# Altium schematic symbol library RF_Bluetooth.SchLib: 13 symbols
Pins are listed as number, name and electrical type; pins without a type are passive.

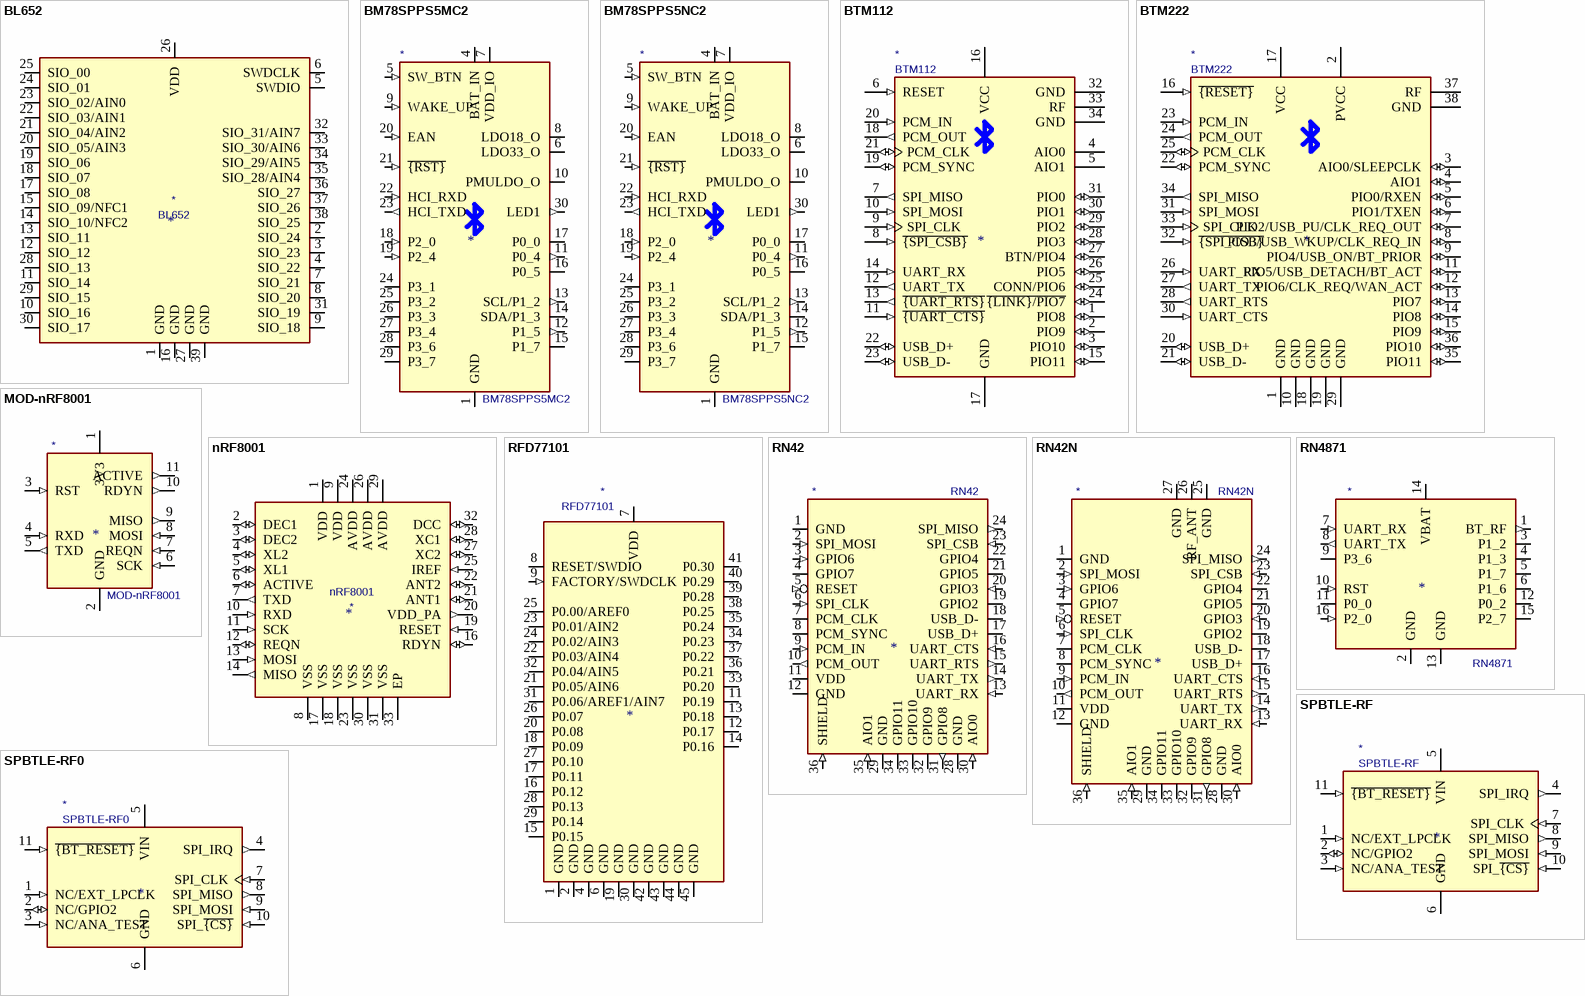
[diagram p0: symbols BL652 to SPBTLE-RF0]

## BL652
designator *  value BL652
ki_keywords: Bluetooth Nordic nRF52; ki_description: Bluetooth module; ki_fp_filters: Laird*BL652*; Footprint: RF_Module:Laird_BL652; Supplier: http://cdn.lairdtech.com/home/brandworld/files/Datasheet%20-%20BL652.pdf
footprint Laird_BL652
pins: 1 GND (power), 2 SIO_24 (io), 3 SIO_23 (io), 4 SIO_22 (io), 5 SWDIO (io), 6 SWDCLK (io), 7 SIO_21 (io), 8 SIO_20 (io), 9 SIO_18 (io), 10 SIO_16 (io), 11 SIO_14 (io), 12 SIO_12 (io), 13 SIO_11 (io), 14 SIO_10/NFC2 (io), 15 SIO_09/NFC1 (io), 16 GND (power), 17 SIO_08 (io), 18 SIO_07 (io), 19 SIO_06 (io), 20 SIO_05/AIN3 (io), 21 SIO_04/AIN2 (io), 22 SIO_03/AIN1 (io), 23 SIO_02/AIN0 (io), 24 SIO_01 (io), 25 SIO_00 (io), 26 VDD (power), 27 GND (power), 28 SIO_13 (io), 29 SIO_15 (io), 30 SIO_17 (io), 31 SIO_19 (io), 32 SIO_31/AIN7 (io), 33 SIO_30/AIN6 (io), 34 SIO_29/AIN5 (io), 35 SIO_28/AIN4 (io), 36 SIO_27 (io), 37 SIO_26 (io), 38 SIO_25 (io), 39 GND (power)

## BM78SPPS5MC2
designator *  value BM78SPPS5MC2
ki_keywords: Bluetooth BLE BT GAP SPP SDP RFCOMM L2CAP GATT ATT SMP L2CAP; ki_description: Bluetooth Dual-Mode, UART, Class 2; ki_fp_filters: BM78SPPS5XC2*; Footprint: RF_Module:BM78SPPS5XC2; Supplier: http://ww1.microchip.com/downloads/en/DeviceDoc/60001380C.pdf
footprint BM78SPPS5XC2
pins: 1 GND (power), 2 GND hidden, 3 GND hidden, 4 BAT_IN (power), 5 SW_BTN (in), 6 LDO33_O (power), 7 VDD_IO (power), 8 LDO18_O (power), 9 WAKE_UP (in), 10 PMULDO_O, 11 P0_4 (out), 12 P1_5 (out), 13 SCL/P1_2 (out), 14 SDA/P1_3 (io), 15 P1_7 (io), 16 P0_5 (io), 17 P0_0 (io), 18 P2_0 (in), 19 P2_4 (in), 20 EAN (in), 21 ~{{RST}} (in), 22 HCI_RXD (in), 23 HCI_TXD (out), 24 P3_1 (io), 25 P3_2 (io), 26 P3_3 (io), 27 P3_4 (io), 28 P3_6 (io), 29 P3_7 (io), 30 LED1 (out), 31 GND hidden, 32 GND hidden, 33 GND hidden

## BM78SPPS5NC2
designator *  value BM78SPPS5NC2
ki_keywords: Bluetooth BLE BT GAP SPP SDP RFCOMM L2CAP GATT ATT SMP L2CAP; ki_description: Bluetooth Dual-Mode, UART, Class 2; ki_fp_filters: BM78SPPS5XC2*; Footprint: RF_Module:BM78SPPS5XC2; Supplier: http://ww1.microchip.com/downloads/en/DeviceDoc/60001380C.pdf
footprint BM78SPPS5XC2
pins: 1 GND (power), 2 GND hidden, 3 GND hidden, 4 BAT_IN (power), 5 SW_BTN (in), 6 LDO33_O (power), 7 VDD_IO (power), 8 LDO18_O (power), 9 WAKE_UP (in), 10 PMULDO_O, 11 P0_4 (out), 12 P1_5 (out), 13 SCL/P1_2 (out), 14 SDA/P1_3 (io), 15 P1_7 (io), 16 P0_5 (io), 17 P0_0 (io), 18 P2_0 (in), 19 P2_4 (in), 20 EAN (in), 21 ~{{RST}} (in), 22 HCI_RXD (in), 23 HCI_TXD (out), 24 P3_1 (io), 25 P3_2 (io), 26 P3_3 (io), 27 P3_4 (io), 28 P3_6 (io), 29 P3_7 (io), 30 LED1 (out), 31 GND hidden, 32 GND hidden, 33 GND hidden

## BTM112
designator *  value BTM112
ki_keywords: Bluetooth BT SPP Module; ki_description: Bluetooth SPP Module, UART, Class 2; Supplier: https://www.sparkfun.com/datasheets/Wireless/Bluetooth/BTM112_wATcommands.pdf
pins: 1 PIO8 (io), 2 PIO9 (io), 3 PIO10 (io), 4 AIO0, 5 AIO1, 6 RESET (in), 7 SPI_MISO (out), 8 ~{{SPI_CSB}} (in), 9 SPI_CLK (in), 10 SPI_MOSI (in), 11 ~{{UART_CTS}} (in), 12 UART_TX (out), 13 ~{{UART_RTS}} (out), 14 UART_RX (in), 15 PIO11 (io), 16 VCC (power), 17 GND (power), 18 PCM_OUT (out), 19 PCM_SYNC (io), 20 PCM_IN (in), 21 PCM_CLK (io), 22 USB_D+ (io), 23 USB_D- (io), 24 ~{{LINK}/PIO7} (io), 25 CONN/PIO6 (io), 26 PIO5 (io), 27 BTN/PIO4 (io), 28 PIO3 (io), 29 PIO2 (io), 30 PIO1 (io), 31 PIO0 (io), 32 GND (power), 33 RF, 34 GND (power)

## BTM222
designator *  value BTM222
ki_keywords: Bluetooth BT SPP Module; ki_description: Bluetooth SPP Module, UART, Class 1; Supplier: https://www.tme.eu/de/Document/b90358c53cd65c9b10d2914f55812666/btm222_datasheet.pdf
pins: 1 GND (power), 2 PVCC (power), 3 AIO0/SLEEPCLK (io), 4 AIO1 (io), 5 PIO0/RXEN (io), 6 PIO1/TXEN (io), 7 PIO2/USB_PU/CLK_REQ_OUT (io), 8 PIO3/USB_WKUP/CLK_REQ_IN (io), 9 PIO4/USB_ON/BT_PRIOR (io), 10 GND (power), 11 PIO5/USB_DETACH/BT_ACT (io), 12 PIO6/CLK_REQ/WAN_ACT (io), 13 PIO7 (io), 14 PIO8 (io), 15 PIO9 (io), 16 ~{{RESET}} (in), 17 VCC (power), 18 GND (power), 19 GND (power), 20 USB_D+ (io), 21 USB_D- (io), 22 PCM_SYNC (io), 23 PCM_IN (in), 24 PCM_OUT (out), 25 PCM_CLK (io), 26 UART_RX (in), 27 UART_TX (out), 28 UART_RTS (out), 29 GND (power), 30 UART_CTS (in), 31 SPI_MOSI (in), 32 ~{{SPI_CSB}} (in), 33 SPI_CLK (in), 34 SPI_MISO (out), 35 PIO11 (io), 36 PIO10 (io), 37 RF, 38 GND (power)

## MOD-nRF8001
designator *  value MOD-nRF8001
ki_keywords: Bluetooth Low Energy nRF8001; ki_description: Bluetooth Low Energy module based on nRF8001 chipset; ki_fp_filters: MOD?nRF8001*; Footprint: RF_Module:MOD-nRF8001; Supplier: https://www.olimex.com/Products/Modules/RF/MOD-nRF8001/
footprint MOD-nRF8001
pins: 1 3V3 (power), 2 GND (power), 3 RST (in), 4 RXD (in), 5 TXD (out), 6 SCK (in), 7 REQN (in), 8 MOSI (in), 9 MISO (out), 10 RDYN (out), 11 ACTIVE (out)

## nRF8001
designator *  value nRF8001
ki_keywords: BLE, bluetooth; ki_description: BLE LE Connectivity IC, QFN-32; ki_fp_filters: QFN*1EP*5x5mm*P0.5mm*; Footprint: Package_DFN_QFN:QFN-32-1EP_5x5mm_P0.5mm_EP3.45x3.45mm; Supplier: https://www.nordicsemi.com/eng/nordic/content_download/2981/38488/file/nRF8001_PS_v1.3.pdf
footprint QFN-32-1EP_5x5mm_P0.5mm_EP3.45x3.45mm
pins: 1 VDD (power), 2 DEC1 (io), 3 DEC2 (io), 4 XL2 (io), 5 XL1 (io), 6 ACTIVE (io), 7 TXD (out), 8 VSS (power), 9 VDD (power), 10 RXD (in), 11 SCK (in), 12 REQN (io), 13 MOSI (in), 14 MISO (out), 15 N/C (in) hidden, 16 RDYN (io), 17 VSS (power), 18 VSS (power), 19 RESET (in), 20 VDD_PA (out), 21 ANT1 (io), 22 ANT2 (io), 23 VSS (power), 24 AVDD (power), 25 IREF (in), 26 AVDD (power), 27 XC2 (io), 28 XC1 (io), 29 AVDD (power), 30 VSS (power), 31 VSS (power), 32 DCC (io), 33 EP (power)

## RFD77101
designator *  value RFD77101
ki_keywords: Simblee ARM Cortex-M0 Bluetooth antenna; ki_description: Simblee Bluetooth Smart Module with ARM Cortex-M0 and integrated antenna; ki_fp_filters: RFDigital*RFD77101*; Footprint: RF_Module:RFDigital_RFD77101; Supplier: https://www.simblee.com/Simblee%20RFD77101%20Datasheet%20v1.0.pdf
footprint RFDigital_RFD77101
pins: 1 GND (power), 2 GND (power), 3 NC (in) hidden, 4 GND (power), 5 NC (in) hidden, 6 GND (power), 7 VDD (power), 8 RESET/SWDIO (io), 9 FACTORY/SWDCLK (in), 10 NC (in) hidden, 11 P0.19 (io), 12 P0.17 (io), 13 P0.18 (io), 14 P0.16 (io), 15 P0.15 (io), 16 P0.12 (io), 17 P0.11 (io), 18 P0.09 (io), 19 GND (power), 20 P0.08 (io), 21 P0.05/AIN6 (io), 22 P0.03/AIN4 (io), 23 P0.01/AIN2 (io), 24 P0.02/AIN3 (io), 25 P0.00/AREF0 (io), 26 P0.07 (io), 27 P0.10 (io), 28 P0.13 (io), 29 P0.14 (io), 30 GND (power), 31 P0.06/AREF1/AIN7 (io), 32 P0.04/AIN5 (io), 33 P0.20 (io), 34 P0.23 (io), 35 P0.24 (io), 36 P0.21 (io), 37 P0.22 (io), 38 P0.25 (io), 39 P0.28 (io), 40 P0.29 (io), 41 P0.30 (io), 42 GND (power), 43 GND (power), 44 GND (power), 45 GND (power)

## RN42
designator *  value RN42
ki_keywords: Bluetooth Module; ki_description: Class 2 Bluetooth Module with on-board antenna; ki_fp_filters: RN42*; Footprint: RF_Module:RN42; Supplier: http://ww1.microchip.com/downloads/en/DeviceDoc/rn-42-ds-v2.32r.pdf
footprint RN42
pins: 1 GND (power), 2 SPI_MOSI (in), 3 GPIO6 (in), 4 GPIO7 (io), 5 RESET (in), 6 SPI_CLK (in), 7 PCM_CLK (io), 8 PCM_SYNC (io), 9 PCM_IN (in), 10 PCM_OUT (out), 11 VDD (power), 12 GND (power), 13 UART_RX (in), 14 UART_TX (out), 15 UART_RTS (out), 16 UART_CTS (in), 17 USB_D+ (io), 18 USB_D- (io), 19 GPIO2 (io), 20 GPIO3 (in), 21 GPIO5 (io), 22 GPIO4 (io), 23 SPI_CSB (in), 24 SPI_MISO (out), 28 GND (power), 29 GND (power), 30 AIO0 (in), 31 GPIO8 (out), 32 GPIO9 (io), 33 GPIO10 (io), 34 GPIO11 (io), 35 AIO1 (in), 36 SHIELD (in)

## RN42N
designator *  value RN42N
ki_keywords: Bluetooth Module; ki_description: Class 2 Bluetooth Module without antenna; ki_fp_filters: RN42N*; Footprint: RF_Module:RN42N; Supplier: http://ww1.microchip.com/downloads/en/DeviceDoc/rn-42-ds-v2.32r.pdf
footprint RN42N
pins: 1 GND (power), 2 SPI_MOSI (in), 3 GPIO6 (in), 4 GPIO7 (io), 5 RESET (in), 6 SPI_CLK (in), 7 PCM_CLK (io), 8 PCM_SYNC (io), 9 PCM_IN (in), 10 PCM_OUT (out), 11 VDD (power), 12 GND (power), 13 UART_RX (in), 14 UART_TX (out), 15 UART_RTS (out), 16 UART_CTS (in), 17 USB_D+ (io), 18 USB_D- (io), 19 GPIO2 (io), 20 GPIO3 (in), 21 GPIO5 (io), 22 GPIO4 (io), 23 SPI_CSB (in), 24 SPI_MISO (out), 25 GND (power), 26 RF_ANT (io), 27 GND (power), 28 GND (power), 29 GND (power), 30 AIO0 (in), 31 GPIO8 (out), 32 GPIO9 (io), 33 GPIO10 (io), 34 GPIO11 (io), 35 AIO1 (in), 36 SHIELD (in)

## RN4871
designator *  value RN4871
ki_keywords: Bluetooth Low Energy 4.2 Module; ki_fp_filters: RF*Module:Microchip*RN4871*; Footprint: RF_Module:Microchip_RN4871; Supplier: http://ww1.microchip.com/downloads/en/DeviceDoc/50002489A.pdf; ki_description: Bluetooth Low Energy 4.2 Module
footprint Microchip_RN4871
pins: 1 BT_RF (out), 2 GND (power), 3 P1_2 (io), 4 P1_3 (io), 5 P1_7 (io), 6 P1_6 (io), 7 UART_RX (in), 8 UART_TX (out), 9 P3_6 (io), 10 RST (in), 11 P0_0 (io), 12 P0_2 (io), 13 GND (power), 14 VBAT (power), 15 P2_7 (io), 16 P2_0 (in)

## SPBTLE-RF
designator *  value SPBTLE-RF
ki_keywords: BLE bluetooth module low-power; ki_description: Very Low Power network processor module for BLE v4.1, Hub capabilities; ki_fp_filters: ST*SPBTLE*; Footprint: RF_Module:ST_SPBTLE; Supplier: http://www.st.com/resource/en/datasheet/spbtle-rf.pdf
footprint ST_SPBTLE
pins: 1 NC/EXT_LPCLK (in), 2 NC/GPIO2 (io), 3 NC/ANA_TEST (in), 4 SPI_IRQ (out), 5 VIN (power), 6 GND (power), 7 SPI_CLK (in), 8 SPI_MISO (out), 9 SPI_MOSI (in), 10 SPI_~{{CS}} (in), 11 ~{{BT_RESET}} (in)

## SPBTLE-RF0
designator *  value SPBTLE-RF0
ki_keywords: BLE bluetooth module low-power; ki_description: Very Low Power network processor module for BLE v4.1; ki_fp_filters: ST*SPBTLE*; Footprint: RF_Module:ST_SPBTLE; Supplier: http://www.st.com/resource/en/datasheet/spbtle-rf0.pdf
footprint ST_SPBTLE
pins: 1 NC/EXT_LPCLK (in), 2 NC/GPIO2 (io), 3 NC/ANA_TEST (in), 4 SPI_IRQ (out), 5 VIN (power), 6 GND (power), 7 SPI_CLK (in), 8 SPI_MISO (out), 9 SPI_MOSI (in), 10 SPI_~{{CS}} (in), 11 ~{{BT_RESET}} (in)